# Altium schematic symbol library miniESP.SchLib: 7 symbols
Pins are listed as number, name and electrical type; pins without a type are passive.

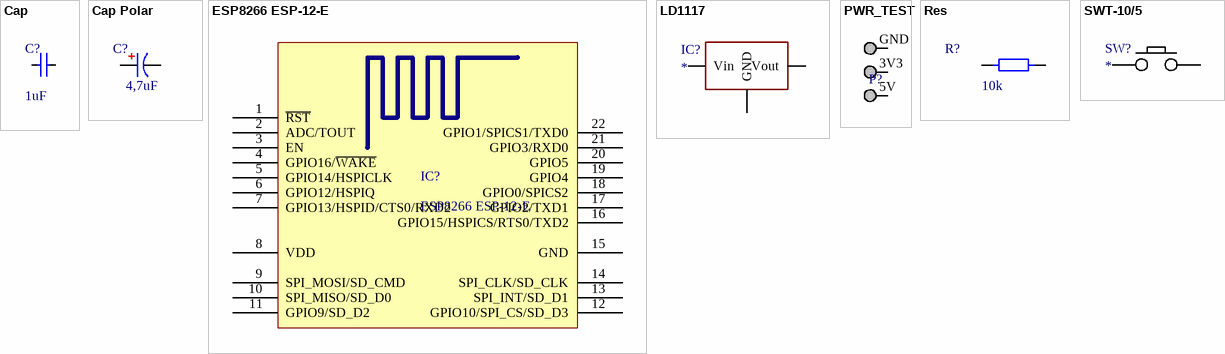
[diagram p0: symbols Cap to SWT-10/5]

## Cap
designator C?  value 1uF
footprint C1210
footprint C0603
pins: cap_1 8, cap_2 9

## Cap Polar
designator C?  value 4,7uF
footprint C_POLAR A
pins: cap_polar_1, cap_polar_2

## ESP8266 ESP-12-E
designator IC?
footprint ESP8266 ESP-12-E
footprint ESP8266 ESP-12-E TOP (ESP8266 ESP-12-E)
footprint ESP8266 ESP-12-E RAW (ESP8266 ESP-12-E)
pins: 1 ~{RST} "Reset", 2 ADC/TOUT "ADC Input Or TOUT Output", 3 EN "Chip enable", 4 GPIO16/~{WAKE} "GPIO16 or Deep-Sleep Wakeup", 5 GPIO14/HSPICLK "GPIO14 or SPI CLK", 6 GPIO12/HSPIQ "GPIO12 or SPIQ", 7 GPIO13/HSPID/CTS0/RXD2 "GPIO13 or SPID", 8 VDD "Power supply", 9 SPI_MOSI/SD_CMD "GPIO14 or SPI CLK", 10 SPI_MISO/SD_D0 "GPIO12 or SPIQ", 11 GPIO9/SD_D2 "GPIO13 or SPID", 12 GPIO10/SPI_CS/SD_D3 "GPIO15 or SPICS", 13 SPI_INT/SD_D1 "GPIO2 or TX", 14 SPI_CLK/SD_CLK "GPIO0 or SPICS2", 15 GND "Power ground", 16 GPIO15/HSPICS/RTS0/TXD2 "GPIO15 or SPICS", 17 GPIO2/TXD1 "GPIO2 or TX", 18 GPIO0/SPICS2 "GPIO0 or SPICS2", 19 GPIO4 "GPIO5", 20 GPIO5 "GPIO4", 21 GPIO3/RXD0 "GPIO3 or UART RXD", 22 GPIO1/SPICS1/TXD0 "GPIO1 or UART TXD"

## LD1117
designator IC?
footprint LD1117
pins: ld1117_gnd GND, ld1117_vin Vin, ld1117_vout Vout

## PWR_TEST
designator P?, comment G 3V3 5V  (value not drawn)
footprint PWR_TETST
pins: 3V3 24, 5V 23, GND 25

## Res
designator R?  value 10k
footprint R0603
pins: res_1 1, res_2 2

## SWT-10/5
designator SW?
footprint SWT-10/5
pins: 3, 4